# Altium schematic symbol library SP2525.SchLib: 1 symbol
Pins are listed as number, name and electrical type; pins without a type are passive.

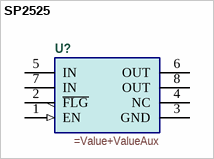
[diagram p0: symbol SP2525]

## SP2525
designator U?
=Description
pins: 1 EN (in), 2 ~{FLG} (oc), 3 GND (power), 4 NC, 5 IN (power), 6 OUT (power), 7 IN (power), 8 OUT (power)